# Altium footprint library Parts.PcbLib: 56 footprints (part 4 of 4)
Each footprint in its own frame and in the unit in brackets; x right, y up, seen from the top. Pads: shape width x height; smd on the part's side, far side on the other; paste and mask are expansions set on the pad; w line width, h text height; cw(c..) or ccw(c..) is an arc to the next point about the centre after c.
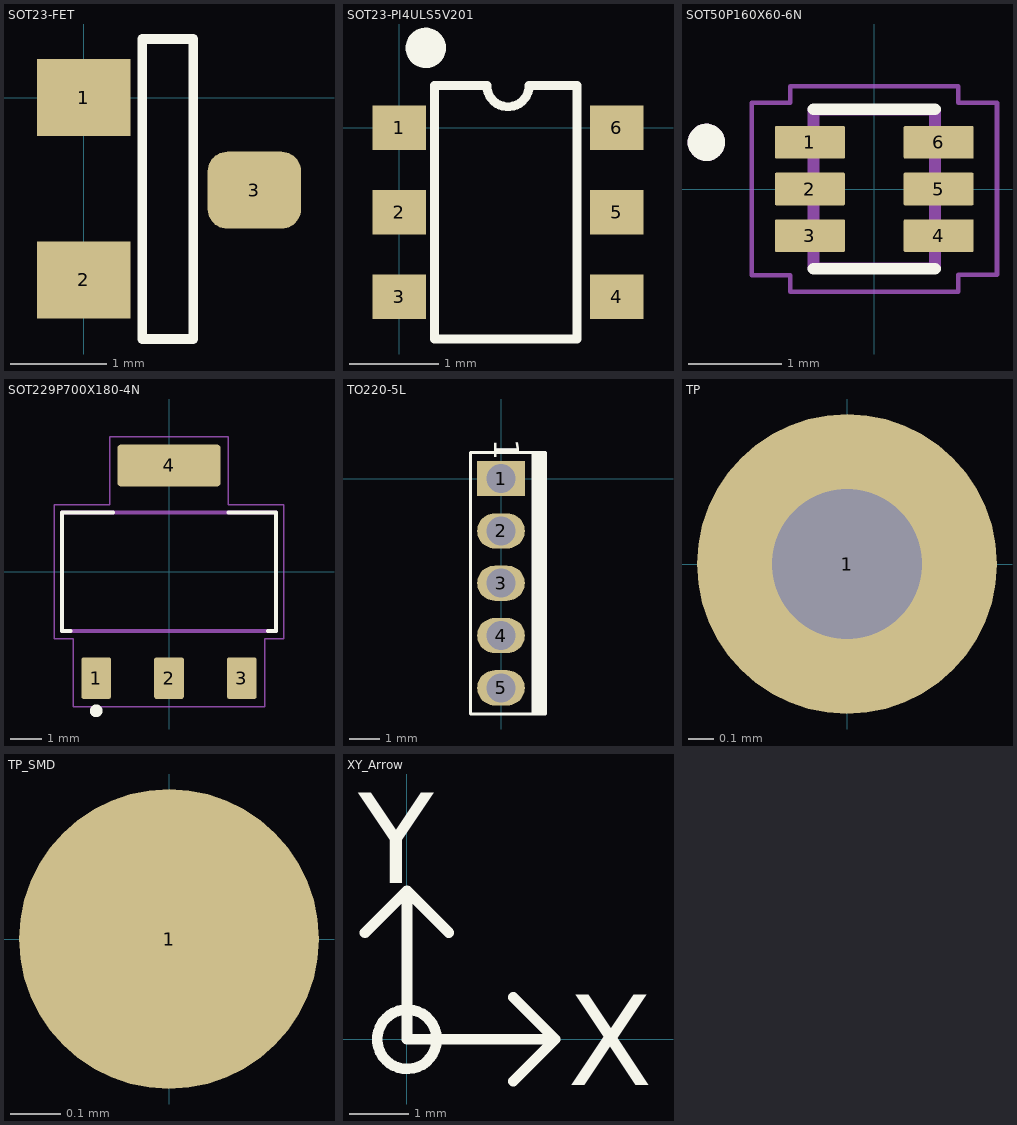
[diagram p3: the footprints below, top view; thin cyan lines are the x and y axes]

## SOT23-FET [mil]
pads (3):
  rect 38.27x31.57 smd: 1(0,0) 2(0,-74.8)
  rrect50% 38.27x31.57 smd: 3(70,-38)
Top Overlay:
  lines w3.94: 24,-99 45,-99 45,24 24,24 24,-99

## SOT23-PI4ULS5V201 [mm]
pads (6):
  rect 0.6x0.5 smd: 1(0,0) 2(0,-0.95) 3(0,-1.9) 4(2.45,-1.9) 5(2.45,-0.95) 6(2.45,0)
Top Overlay:
  circle w0.254: c0.3,0.9 r0.1
  lines w0.1: 0.4,-2.375 2,-2.375 2,0.475 1.462,0.475 cw(c1.225,0.475) 0.987,0.475 0.4,0.475 0.4,-2.375

## SOT50P160X60-6N [mm]
pads (6):
  rrect8% 0.75x0.35 smd: 1(-0.69,0.5) 2(-0.69,0) 3(-0.69,-0.5) 4(0.69,-0.5) 5(0.69,0) 6(0.69,0.5)
Top Overlay:
  circle w0.2: c-1.8,0.5 r0.1
  lines w0.127: -0.65,-0.855 0.65,-0.855 ; -0.65,0.855 0.65,0.855
Mechanical 13:
  circle w0.2: c-1.8,0.5 r0.1
  lines w0.127: -0.65,-0.85 -0.65,0.85 0.65,0.85 0.65,-0.85 -0.65,-0.85
Mechanical 15:
  lines w0.05: -1.315,-0.925 -1.315,0.925 -0.9,0.925 -0.9,1.1 0.9,1.1 0.9,0.925 1.315,0.925 1.315,-0.92 0.9,-0.92 0.9,-1.1 -0.9,-1.1 -0.9,-0.925 -1.315,-0.925

## SOT229P700X180-4N [mm]
pads (4):
  rrect15% 0.93x1.31 smd: 1(-2.29,-3.345) 2(0,-3.345) 3(2.29,-3.345)
  rrect15% 3.24x1.31 smd: 4(0,3.345)
Top Overlay:
  circle w0.2: c-2.29,-4.373 r0.1
  lines w0.127: -3.1,-1.86 -3.36,-1.86 -3.36,1.86 -1.76,1.86 ; 1.87,1.86 3.36,1.86 3.36,-1.86 3.11,-1.86
Mechanical 13:
  lines w0.127: -3.36,-1.86 -3.36,1.86 3.36,1.86 3.36,-1.86 -3.36,-1.86
Mechanical 15:
  lines w0.05: -3.61,-2.11 -3.61,2.11 -1.87,2.11 -1.87,4.25 1.87,4.25 1.87,2.11 3.61,2.11 3.61,-2.11 3.01,-2.11 3.01,-4.25 -3.01,-4.25 -3.01,-2.11 -3.61,-2.11

## TO220-5L [mm]
pads (5):
  rect 1.56x1.15 hole 0.95: 1(0,0)
  oval 1.56x1.15 hole 0.95: 2(0,-1.71) 3(0,-3.42) 4(0,-5.13) 5(0,-6.84)
Top Overlay:
  rectangle: 1.067,-7.695 1.448,0.855
  lines w0.1: 1.041,-7.695 1.041,-7.696 1.041,0.83 1.067,0.855 ; -0.991,-7.695 1.448,-7.695 1.448,0.855 -0.991,0.855 -0.991,-7.695
  text "1" at -0.225,1.3 h0.81

## TP [mm]
pads (1):
  round 1.2 hole 0.6: 1(0,0)

## TP_SMD [mm]
pads (1):
  round 0.6 smd: 1(0,0)

## XY_Arrow [mm]
Top Overlay:
  circle w0.178: c0,0 r0.5
  lines w0.178: -0.707,1.793 0,2.5 ; 0.707,1.793 0,2.5 ; 1.793,-0.707 2.5,0 ; 1.793,0.707 2.5,0 ; 0,2.5 0,0 2.5,0
  text "X" at 2.704,-0.771 h1.52
  text "Y" at -0.825,2.625 h1.52